# Altium schematic symbol library SCH - MCU - INFINEON XMC - INFINEON XMC1403Q040.SchLib: 1 symbol
Pins are listed as number, name and electrical type; pins without a type are passive.

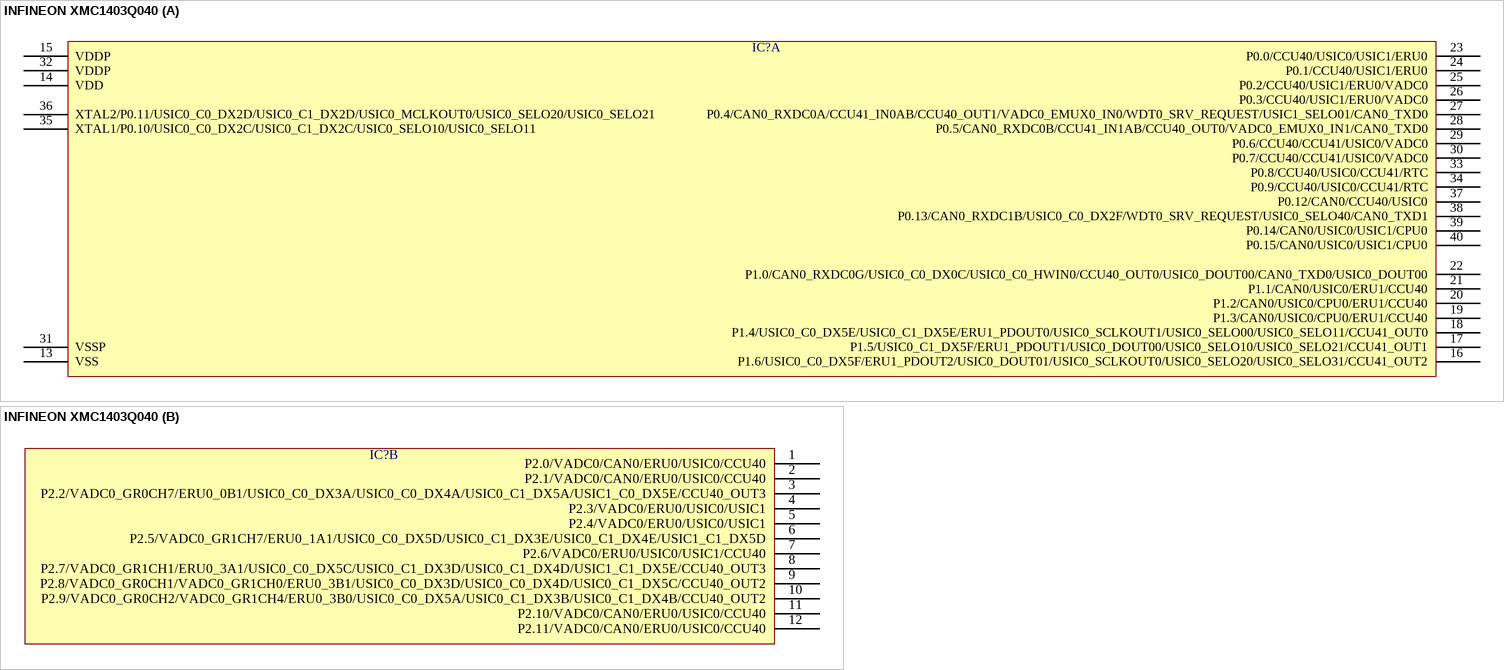
[diagram p0: symbol INFINEON XMC1403Q040]

## INFINEON XMC1403Q040
designator IC?  (value not drawn)
part A pins: 13 VSS, 14 VDD, 15 VDDP, 16 P1.6/USIC0_C0_DX5F/ERU1_PDOUT2/USIC0_DOUT01/USIC0_SCLKOUT0/USIC0_SELO20/USIC0_SELO31/CCU41_OUT2, 17 P1.5/USIC0_C1_DX5F/ERU1_PDOUT1/USIC0_DOUT00/USIC0_SELO10/USIC0_SELO21/CCU41_OUT1, 18 P1.4/USIC0_C0_DX5E/USIC0_C1_DX5E/ERU1_PDOUT0/USIC0_SCLKOUT1/USIC0_SELO00/USIC0_SELO11/CCU41_OUT0, 19 P1.3/CAN0/USIC0/CPU0/ERU1/CCU40, 20 P1.2/CAN0/USIC0/CPU0/ERU1/CCU40, 21 P1.1/CAN0/USIC0/ERU1/CCU40, 22 P1.0/CAN0_RXDC0G/USIC0_C0_DX0C/USIC0_C0_HWIN0/CCU40_OUT0/USIC0_DOUT00/CAN0_TXD0/USIC0_DOUT00, 23 P0.0/CCU40/USIC0/USIC1/ERU0, 24 P0.1/CCU40/USIC1/ERU0, 25 P0.2/CCU40/USIC1/ERU0/VADC0, 26 P0.3/CCU40/USIC1/ERU0/VADC0, 27 P0.4/CAN0_RXDC0A/CCU41_IN0AB/CCU40_OUT1/VADC0_EMUX0_IN0/WDT0_SRV_REQUEST/USIC1_SELO01/CAN0_TXD0, 28 P0.5/CAN0_RXDC0B/CCU41_IN1AB/CCU40_OUT0/VADC0_EMUX0_IN1/CAN0_TXD0, 29 P0.6/CCU40/CCU41/USIC0/VADC0, 30 P0.7/CCU40/CCU41/USIC0/VADC0, 31 VSSP, 32 VDDP, 33 P0.8/CCU40/USIC0/CCU41/RTC, 34 P0.9/CCU40/USIC0/CCU41/RTC, 35 XTAL1/P0.10/USIC0_C0_DX2C/USIC0_C1_DX2C/USIC0_SELO10/USIC0_SELO11, 36 XTAL2/P0.11/USIC0_C0_DX2D/USIC0_C1_DX2D/USIC0_MCLKOUT0/USIC0_SELO20/USIC0_SELO21, 37 P0.12/CAN0/CCU40/USIC0, 38 P0.13/CAN0_RXDC1B/USIC0_C0_DX2F/WDT0_SRV_REQUEST/USIC0_SELO40/CAN0_TXD1, 39 P0.14/CAN0/USIC0/USIC1/CPU0, 40 P0.15/CAN0/USIC0/USIC1/CPU0
part B pins: 1 P2.0/VADC0/CAN0/ERU0/USIC0/CCU40, 2 P2.1/VADC0/CAN0/ERU0/USIC0/CCU40, 3 P2.2/VADC0_GR0CH7/ERU0_0B1/USIC0_C0_DX3A/USIC0_C0_DX4A/USIC0_C1_DX5A/USIC1_C0_DX5E/CCU40_OUT3, 4 P2.3/VADC0/ERU0/USIC0/USIC1, 5 P2.4/VADC0/ERU0/USIC0/USIC1, 6 P2.5/VADC0_GR1CH7/ERU0_1A1/USIC0_C0_DX5D/USIC0_C1_DX3E/USIC0_C1_DX4E/USIC1_C1_DX5D, 7 P2.6/VADC0/ERU0/USIC0/USIC1/CCU40, 8 P2.7/VADC0_GR1CH1/ERU0_3A1/USIC0_C0_DX5C/USIC0_C1_DX3D/USIC0_C1_DX4D/USIC1_C1_DX5E/CCU40_OUT3, 9 P2.8/VADC0_GR0CH1/VADC0_GR1CH0/ERU0_3B1/USIC0_C0_DX3D/USIC0_C0_DX4D/USIC0_C1_DX5C/CCU40_OUT2, 10 P2.9/VADC0_GR0CH2/VADC0_GR1CH4/ERU0_3B0/USIC0_C0_DX5A/USIC0_C1_DX3B/USIC0_C1_DX4B/CCU40_OUT2, 11 P2.10/VADC0/CAN0/ERU0/USIC0/CCU40, 12 P2.11/VADC0/CAN0/ERU0/USIC0/CCU40